# Altium schematic symbol library nxp-logic.SchLib: 15 symbols
Pins are listed as number, name and electrical type; pins without a type are passive.

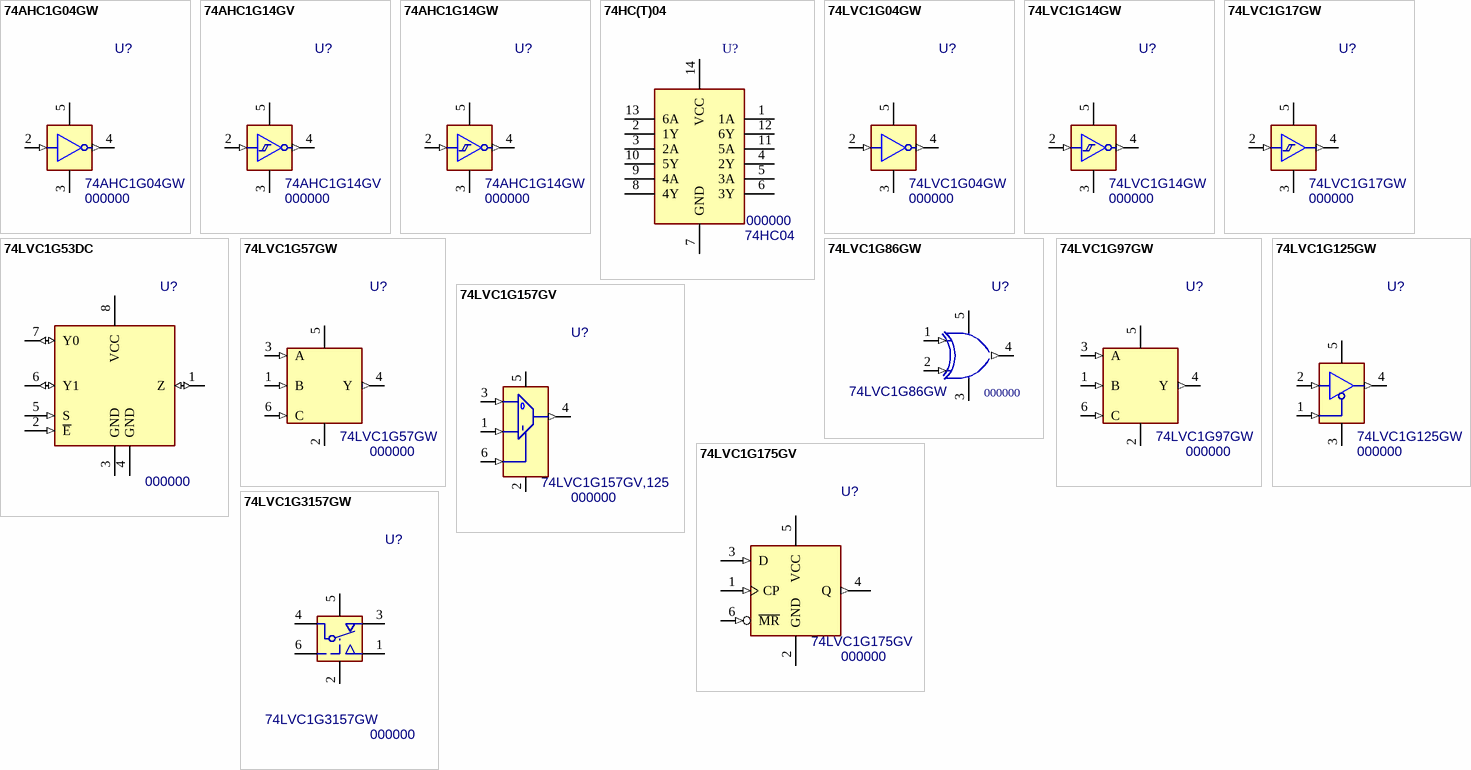
[diagram p0: symbols 74AHC1G04GW to 74LVC1G3157GW]

## 74AHC1G04GW
designator U?, comment 000000  value 74AHC1G04GW
Single inverter; MF: NXP; MF PN: 74AHC1G04GW,125; PN: 000000; Package: 5-TSSOP; ExtraInfo: *
footprint SOT-353-M (SOT23, 5-Leads, Body 2.2x2.2mm (max), Pitch 0.65mm, IPC High Density)
pins: 2 A (in), 3 GND (power), 4 Y (out), 5 VCC (power)

## 74AHC1G14GV
designator U?, comment 000000  value 74AHC1G14GV
Single Schmitt-trigger inverter; MF PN: 74AHC1G14GV,125; PN: 000000; Package: SOT353; ExtraInfo: *
footprint SOT23-5-M (SOT23, 5-Leads, Body 3.0x3.0mm (max), Pitch 0.95mm, IPC Medium Density)
pins: 2 A (in), 3 GND (power), 4 Y (out), 5 VCC (power)

## 74AHC1G14GW
designator U?, comment 000000  value 74AHC1G14GW
Single Schmitt-trigger inverter; MF PN: 74AHC1G14GW,125; MF: NXP; PN: 000000; Package: SOT353; ExtraInfo: *
footprint SOT-353-M (SOT23, 5-Leads, Body 2.2x2.2mm (max), Pitch 0.65mm, IPC High Density)
pins: 2 A (in), 3 GND (power), 4 Y (out), 5 VCC (power)

## 74HC(T)04
designator U?, comment 000000  value 74HC04
PN: 000000; Package: 14-SOIC; ExtraInfo: *
footprint SOP-14M (SOP, 14-Leads, Body 8.8x4.0mm (max), Pitch 1.27mm, IPC Medium Density)
pins: 1 1A, 2 1Y, 3 2A, 4 2Y, 5 3A, 6 3Y, 7 GND (power), 8 4Y, 9 4A, 10 5Y, 11 5A, 12 6Y, 13 6A, 14 VCC (power)

## 74LVC1G04GW
designator U?, comment 000000  value 74LVC1G04GW
Single inverter; PN: 000000; Package: SOT353; ExtraInfo: *
footprint SOT23-5-M (SOT23, 5-Leads, Body 3.0x3.0mm (max), Pitch 0.95mm, IPC Medium Density)
pins: 2 A (in), 3 GND (power), 4 Y (out), 5 VCC (power)

## 74LVC1G14GW
designator U?, comment 000000  value 74LVC1G14GW
Single Schmitt-trigger inverter; PN: 000000; Package: SOT353; ExtraInfo: *
simulation model INVSMT (74LVC14)
footprint SOT23-5-M (SOT23, 5-Leads, Body 3.0x3.0mm (max), Pitch 0.95mm, IPC Medium Density)
pins: 2 A (in), 3 GND (power), 4 Y (out), 5 VCC (power)

## 74LVC1G17GW
designator U?, comment 000000  value 74LVC1G17GW
Single Schmitt-trigger buffer; PN: 000000; Package: SOT353; ExtraInfo: *
simulation model INVSMT (74LVC14)
footprint SOT23-5-M (SOT23, 5-Leads, Body 3.0x3.0mm (max), Pitch 0.95mm, IPC Medium Density)
pins: 2 A (in), 3 GND (power), 4 Y (out), 5 VCC (power)

## 74LVC1G53DC
designator U?, comment 000000
2-channel analog multiplexer/demultiplexer; Value: 74LVC1G53DC; Package: VSSOP-8; PN: 000000; ExtraInfo: *
footprint VSSOP8 (VSSOP, 8-Leads, Body 2.1x2.4mm (max), Pitch 0.50mm, IPC High Density)
pins: 1 Z (io), 2 ~{E} (in), 3 GND (power), 4 GND (power), 5 S (in), 6 Y1 (io), 7 Y0 (io), 8 VCC (power)

## 74LVC1G57GW
designator U?, comment 000000  value 74LVC1G57GW
Lower-power configurable multiple function gate; PN: 000000; Package: SOT363; ExtraInfo: *
footprint SOT363 (6-Lead Plastic surface-mounted package, 0.65mm pitch, SOT363/SC-88)
pins: 1 B (in), 2 GND (power), 3 A (in), 4 Y (out), 5 VCC (power), 6 C (in)

## 74LVC1G86GW
designator U?, comment 000000  value 74LVC1G86GW
Single 2-Input XOR Gate; Package: SOT223-5; PN: 000000; ExtraInfo: *
footprint SOT23-5-M (SOT23, 5-Leads, Body 3.0x3.0mm (max), Pitch 0.95mm, IPC Medium Density)
pins: 1 A (in), 2 B (in), 3 GND (power), 4 Y (out), 5 VCC (power)

## 74LVC1G97GW
designator U?, comment 000000  value 74LVC1G97GW
Lower-power configurable multiple function gate; MF PN: 74LVC1G97GW,125; MF: NXP; PN: 000000; Package: SOT363; ExtraInfo: *
footprint SOT363 (6-Lead Plastic surface-mounted package, 0.65mm pitch, SOT363/SC-88)
pins: 1 B (in), 2 GND (power), 3 A (in), 4 Y (out), 5 VCC (power), 6 C (in)

## 74LVC1G125GW
designator U?, comment 000000  value 74LVC1G125GW
Single buffer; PN: 000000; Package: SOT353; ExtraInfo: *
footprint SOT23-5-M (SOT23, 5-Leads, Body 3.0x3.0mm (max), Pitch 0.95mm, IPC Medium Density)
pins: 1 ~{OE} (in), 2 A (in), 3 GND (power), 4 Y (out), 5 VCC (power)

## 74LVC1G157GV
designator U?, comment 000000  value 74LVC1G157GV,125
Single 2-input multiplexer; PN: 000000; Package: SOT363; ExtraInfo: *
footprint SOT457 (SOT23, 6-Leads, Body 3.1x3.0mm (max), Pitch 0.95mm, IPC Medium Density)
pins: 1 I1 (in), 2 GND (power), 3 I0 (in), 4 Y (out), 5 VCC (power), 6 S (in)

## 74LVC1G175GV
designator U?, comment 000000  value 74LVC1G175GV
Single D-type flip-flop with reset; positive-edge trigger; MF: NXP; MF PN: 74LVC1G175GV,125; Class: Semiconductor; PN: 000000; Package: SOT457; ExtraInfo: *; Parameter 2: *; Price: *; Digi-Key PN: 568-7760-1-ND
footprint SOT457 (SOT23, 6-Leads, Body 3.1x3.0mm (max), Pitch 0.95mm, IPC Medium Density)
pins: 1 CP (in), 2 GND (power), 3 D (in), 4 Q (out), 5 VCC (power), 6 ~{MR} (in)

## 74LVC1G3157GW
designator U?, comment 000000  value 74LVC1G3157GW
2-channel analog multiplexer/demultiplexer; PN: 000000; Package: SOT363; ExtraInfo: *
footprint SOT363 (6-Lead Plastic surface-mounted package, 0.65mm pitch, SOT363/SC-88)
simulation model 74LVC1G3157
pins: 1 Y1, 2 GND (power), 3 Y0, 4 Z, 5 VCC (power), 6 S